# EAGLE library part 618009231421 (library InputOutputIO (rev18a))
WR-DSUB 10.3mm Male Angled PCB Connector with Hex Screw, 9 Pins=>Code : Con_I-O_DSUB_PCB_Male_w-screw_618009231421 <http://katalog.we-online.de/media/images/eican/Con_I-O_DSUB_PCB_Male_w-screw_6180xx231421_pf2.jpg> Details see: http://katalog.we-online.de/en/em/DSUB_MALE_ANGLED_PCB_CONNECTOR_W_HEX_SCREW_10_30MM_6180XX231421 Created 2014-07-10, Karrer Zheng 2014 (C) Würth Elektronik
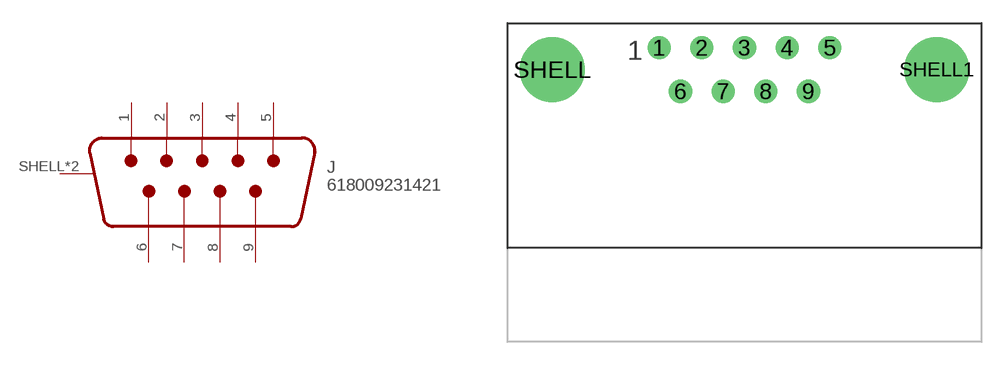
[diagram p20: symbol with the pads of 618009231421; footprint 618009231421]

Designator prefix J

## 618009231421  [618009231421]
1  1
2  2
3  3
4  4
5  5
6  6
7  7
8  8
9  9
SHELL  SHIELD
SHELL1  SHIELD

## Footprint 618009231421 (pad centres in mm)
WR-DSUB 10.3mm Male Angled PCB Connector with Hex Screw, 9 Pins
drill 1: 1 -5.54,1.42; 2 -2.77,1.42; 3 0,1.42; 4 2.77,1.42; 5 5.54,1.42; 6 -4.155,-1.42; 7 -1.385,-1.42; 8 1.385,-1.42; 9 4.155,-1.42
drill 3.2: SHELL -12.5,0; SHELL1 12.5,0